# EAGLE library part FM6809C (library Deegou_IC)
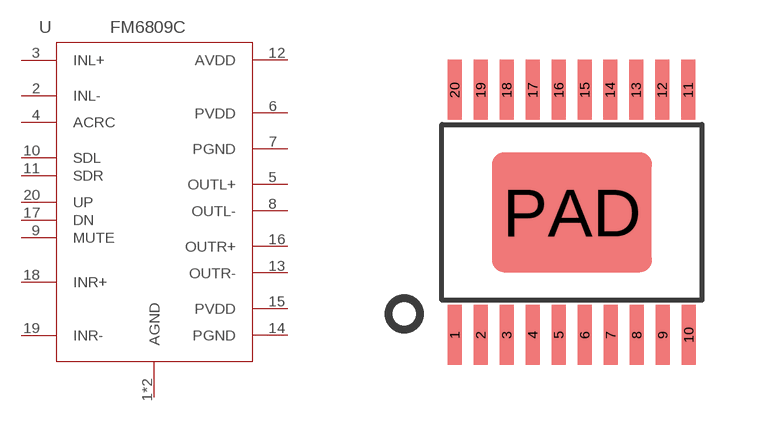
[diagram p106: symbol with the pads of TSSOP20-PAD; footprint TSSOP20-PAD]

Designator prefix U

## FM6809C  [TSSOP20-PAD]
1  AGND
2  INL-
3  INL+
4  ACRC
5  OUTL+
6  PVDD
7  PGND
8  OUTL-
9  MUTE
10  SDL
11  SDR
12  AVDD
13  OUTR-
14  PGND
15  PVDD
16  OUTR+
17  DN
18  INR+
19  INR-
20  UP
PAD  AGND

## Footprint TSSOP20-PAD (pad centres in mm)
smd 0.35 x 1.5: 1 -2.925,-3.065; 2 -2.275,-3.065; 3 -1.625,-3.065; 4 -0.975,-3.065; 5 -0.325,-3.065; 6 0.325,-3.065; 7 0.975,-3.065; 8 1.625,-3.065; 9 2.275,-3.065; 10 2.925,-3.065; 11 2.91,3.065; 12 2.26,3.065; 13 1.61,3.065; 14 0.96,3.065; 15 0.325,3.065; 16 -0.325,3.065; 17 -0.975,3.065; 18 -1.625,3.065; 19 -2.275,3.065; 20 -2.925,3.065
smd 4 x 3: PAD 0,0